# EAGLE library part LTC1550L (library di_ic)
LTC1550L Low Noise, Switched Capacitor Regulated Voltage Inverters http://cds.linear.com/docs/Datasheet/15501lf.pdf
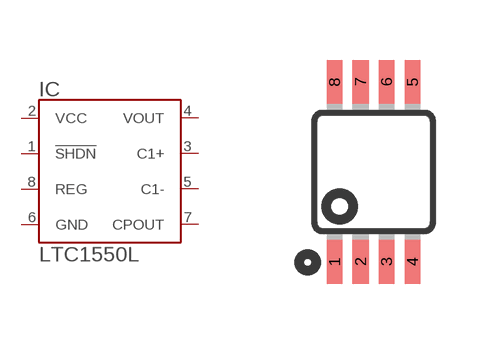
[diagram p64: symbol with the pads of MSOP8; footprint MSOP8]

Designator prefix IC

## LTC1550L  [MSOP8]
1  !SHDN  in
2  VCC  pwr
3  C1+  pas
4  VOUT  pwr
5  C1-  pas
6  GND  pwr
7  CPOUT  pas
8  REG  pas

## Footprint MSOP8 (pad centres in mm)
8M, 8-Lead, 0.118" Wide, Miniature Small Outline Package MSOP 8M-Package doc1097.pdf
smd 0.4 x 1.1: 1 -0.975,-2.25; 2 -0.325,-2.25; 3 0.325,-2.25; 4 0.975,-2.25; 5 0.975,2.25; 6 0.325,2.25; 7 -0.325,2.25; 8 -0.975,2.25